# Altium footprint library passive.PcbLib: 4 footprints
Each footprint in its own frame and in the unit in brackets; x right, y up, seen from the top. Pads: shape width x height; smd on the part's side, far side on the other; paste and mask are expansions set on the pad; w line width, h text height; cw(c..) or ccw(c..) is an arc to the next point about the centre after c.
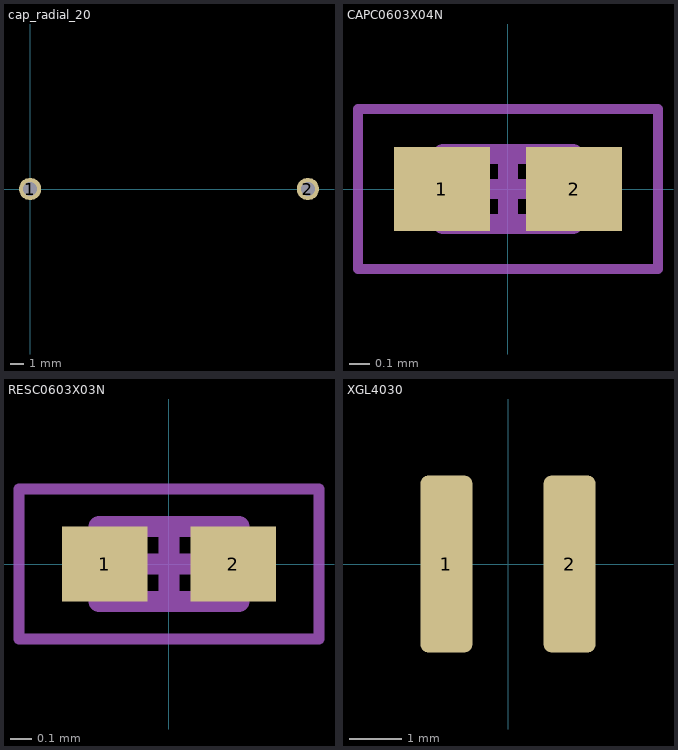
[diagram p0: the footprints below, top view; thin cyan lines are the x and y axes]

## cap_radial_20 [mm]
pads (2):
  round 1.6 hole 1 unplated: 1(0,0) 2(20,0)
3D body: height 15, standoff 5, extent 0,-5.01 20,4.99

## CAPC0603X04N [mm] "Chip Capacitor, 2-Leads, Body 0,60x0,30mm, IPC Medium Density"
height 0.35
pads (2):
  rect 0.48x0.42 smd: 1(-0.33,0) 2(0.33,0)
Top 3D Body:
  lines w0.1: -0.325,-0.175 -0.325,0.175 0.325,0.175 0.325,-0.175 -0.325,-0.175
Mechanical 15:
  lines w0.05: -0.75,-0.4 -0.75,0.4 0.75,0.4 0.75,-0.4 -0.75,-0.4
  lines w0.1: -0.175,0 0.175,0 ; 0,-0.175 0,0.175
3D body "CAPC0603X04N.step": height 0.35, standoff 0, extent -0.325,-0.175 0.325,0.175

## RESC0603X03N [mm] "Chip Resistor, 2-Leads, Body 0,60x0,30mm, IPC Medium Density"
height 0.28
pads (2):
  rect 0.4x0.35 smd: 1(-0.3,0) 2(0.3,0)
Top 3D Body:
  lines w0.1: -0.325,-0.175 -0.325,0.175 0.325,0.175 0.325,-0.175 -0.325,-0.175
Mechanical 15:
  lines w0.05: -0.7,-0.35 -0.7,0.35 0.7,0.35 0.7,-0.35 -0.7,-0.35
  lines w0.1: -0.175,0 0.175,0 ; 0,-0.175 0,0.175
3D body "RESC0603X03N.step": height 0.28, standoff 0, extent -0.325,-0.175 0.325,0.175

## XGL4030 [mm]
pads (2):
  rrect30% 1x3.4 smd: 1(-1.185,0) 2(1.185,0)
3D body "Coilcraft-XGL4030.step": height 3.1, standoff 0, extent -2.15,-2.15 2.15,2.15